# Altium schematic symbol library Keng Seng - 3rd Step Down Circuit.SchLib: 1 symbol
Pins are listed as number, name and electrical type; pins without a type are passive.

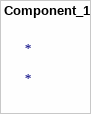
[diagram p0: symbol Component_1]

## Component_1
designator *